# EAGLE library part EPF10K200-RQ240 (library altera)
EPF10K200 FLEX 10K family
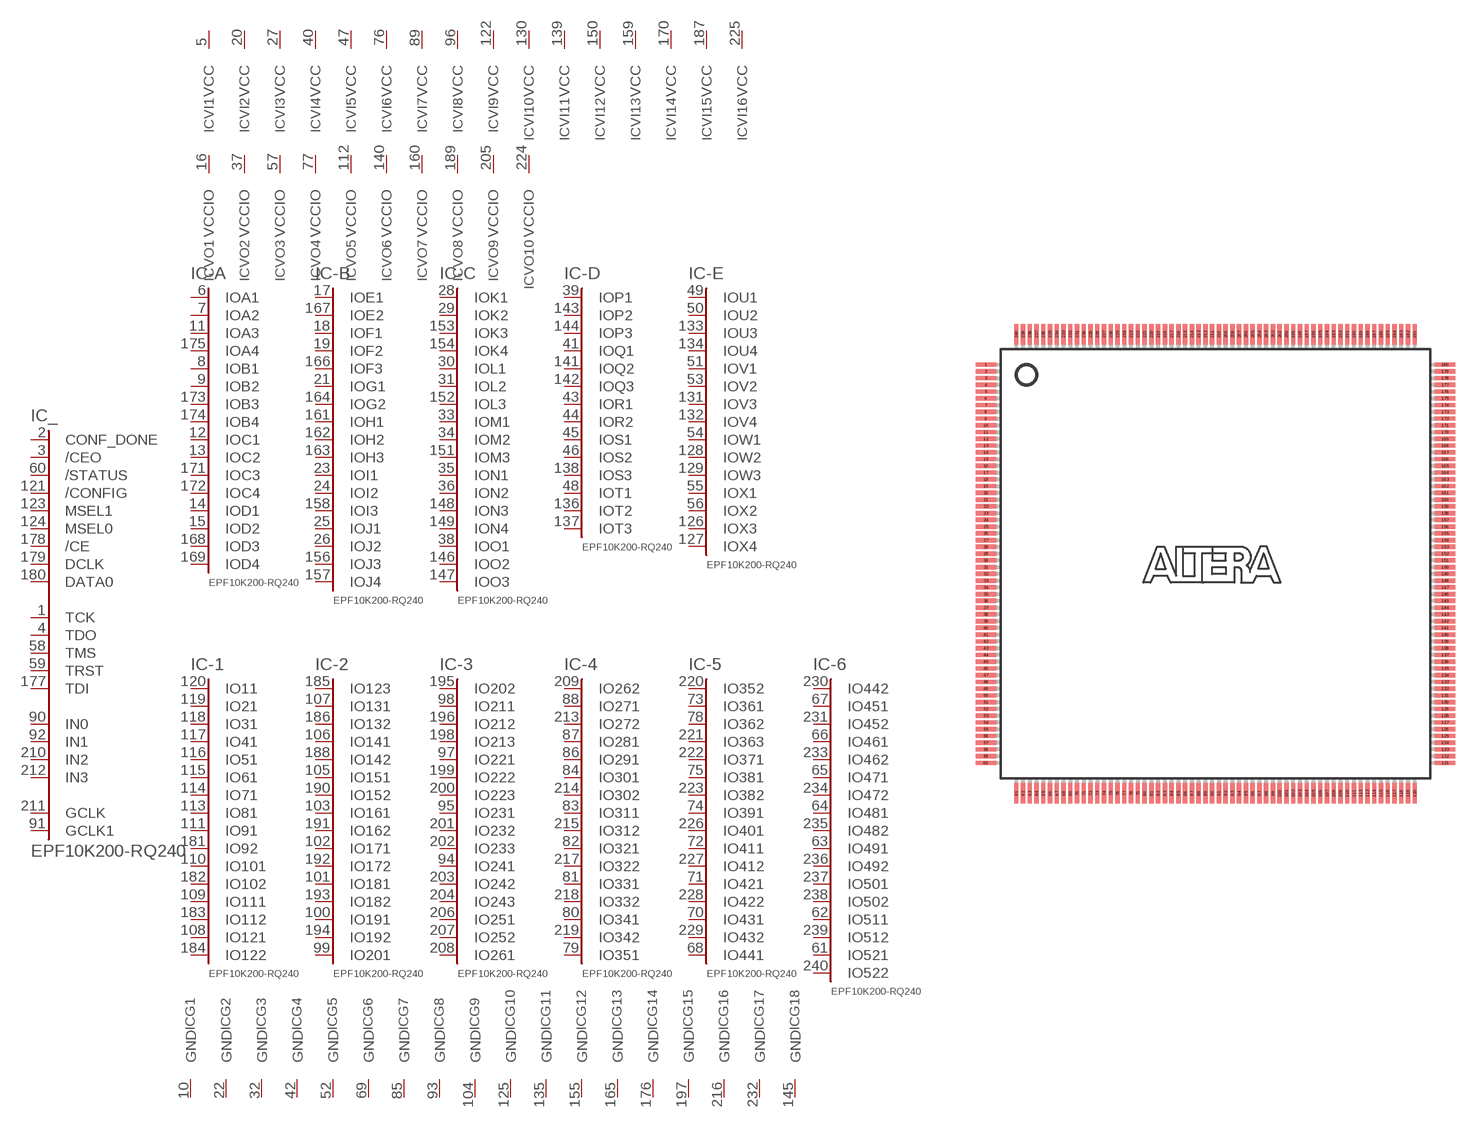
[diagram p35: symbol with the pads of RQFP240; footprint RQFP240]

Designator prefix IC; gates _=R240C -A=A4-D4 -B=E2-J4 -C=K4-O3 -D=P3-T3 -E=U4-X4 -1=122-200 -2=201-200 -3=261-200 -4=351-200 -5=441-200 -6=522-200 G1=GND G2=GND G3=GND G4=GND G5=GND G6=GND G7=GND G8=GND G9=GND G10=GND G11=GND G12=GND G13=GND G14=GND G15=GND G16=GND G17=GND G18=GND VI1=VCCINT VI2=VCCINT VI3=VCCINT VI4=VCCINT VI5=VCCINT VI6=VCCINT VI7=VCCINT VI8=VCCINT VI9=VCCINT VI10=VCCINT VI11=VCCINT VI12=VCCINT VI13=VCCINT VI14=VCCINT VI15=VCCINT VI16=VCCINT VO1=VCCIO VO2=VCCIO VO3=VCCIO VO4=VCCIO VO5=VCCIO VO6=VCCIO VO7=VCCIO VO8=VCCIO VO9=VCCIO VO10=VCCIO

## EPF10K200-RQ240 (MPN: EPF10K200SRC240-3N; OC_FARNELL: unknown; OC_NEWARK: 51R8934)  [RQFP240]
1  _:TCK
2  _:CONF_DONE  in
3  _:/CEO  in
4  _:TDO
5  VI1:VCC  pwr
6  -A:IOA1
7  -A:IOA2
8  -A:IOB1
9  -A:IOB2
10  G1:GND  pwr
11  -A:IOA3
12  -A:IOC1
13  -A:IOC2
14  -A:IOD1
15  -A:IOD2
16  VO1:VCCIO  pwr
17  -B:IOE1
18  -B:IOF1
19  -B:IOF2
20  VI2:VCC  pwr
21  -B:IOG1
22  G2:GND  pwr
23  -B:IOI1
24  -B:IOI2
25  -B:IOJ1
26  -B:IOJ2
27  VI3:VCC  pwr
28  -C:IOK1
29  -C:IOK2
30  -C:IOL1
31  -C:IOL2
32  G3:GND  pwr
33  -C:IOM1
34  -C:IOM2
35  -C:ION1
36  -C:ION2
37  VO2:VCCIO  pwr
38  -C:IOO1
39  -D:IOP1
40  VI4:VCC  pwr
41  -D:IOQ1
42  G4:GND  pwr
43  -D:IOR1
44  -D:IOR2
45  -D:IOS1
46  -D:IOS2
47  VI5:VCC  pwr
48  -D:IOT1
49  -E:IOU1
50  -E:IOU2
51  -E:IOV1
52  G5:GND  pwr
53  -E:IOV2
54  -E:IOW1
55  -E:IOX1
56  -E:IOX2
57  VO3:VCCIO  pwr
58  _:TMS
59  _:TRST
60  _:/STATUS  in
61  -6:IO521
62  -6:IO511
63  -6:IO491
64  -6:IO481
65  -6:IO471
66  -6:IO461
67  -6:IO451
68  -5:IO441
69  G6:GND  pwr
70  -5:IO431
71  -5:IO421
72  -5:IO411
73  -5:IO361
74  -5:IO391
75  -5:IO381
76  VI6:VCC  pwr
77  VO4:VCCIO  pwr
78  -5:IO362
79  -4:IO351
80  -4:IO341
81  -4:IO331
82  -4:IO321
83  -4:IO311
84  -4:IO301
85  G7:GND  pwr
86  -4:IO291
87  -4:IO281
88  -4:IO271
89  VI7:VCC  pwr
90  _:IN0  in
91  _:GCLK1  in
92  _:IN1  in
93  G8:GND  pwr
94  -3:IO241
95  -3:IO231
96  VI8:VCC  pwr
97  -3:IO221
98  -3:IO211
99  -2:IO201
100  -2:IO191
101  -2:IO181
102  -2:IO171
103  -2:IO161
104  G9:GND  pwr
105  -2:IO151
106  -2:IO141
107  -2:IO131
108  -1:IO121
109  -1:IO111
110  -1:IO101
111  -1:IO91
112  VO5:VCCIO  pwr
113  -1:IO81
114  -1:IO71
115  -1:IO61
116  -1:IO51
117  -1:IO41
118  -1:IO31
119  -1:IO21
120  -1:IO11
121  _:/CONFIG  in
122  VI9:VCC  pwr
123  _:MSEL1  in
124  _:MSEL0  in
125  G10:GND  pwr
126  -E:IOX3
127  -E:IOX4
128  -E:IOW2
129  -E:IOW3
130  VI10:VCC  pwr
131  -E:IOV3
132  -E:IOV4
133  -E:IOU3
134  -E:IOU4
135  G11:GND  pwr
136  -D:IOT2
137  -D:IOT3
138  -D:IOS3
139  VI11:VCC  pwr
140  VO6:VCCIO  pwr
141  -D:IOQ2
142  -D:IOQ3
143  -D:IOP2
144  -D:IOP3
145  G18:GND  pwr
146  -C:IOO2
147  -C:IOO3
148  -C:ION3
149  -C:ION4
150  VI12:VCC  pwr
151  -C:IOM3
152  -C:IOL3
153  -C:IOK3
154  -C:IOK4
155  G12:GND  pwr
156  -B:IOJ3
157  -B:IOJ4
158  -B:IOI3
159  VI13:VCC  pwr
160  VO7:VCCIO  pwr
161  -B:IOH1
162  -B:IOH2
163  -B:IOH3
164  -B:IOG2
165  G13:GND  pwr
166  -B:IOF3
167  -B:IOE2
168  -A:IOD3
169  -A:IOD4
170  VI14:VCC  pwr
171  -A:IOC3
172  -A:IOC4
173  -A:IOB3
174  -A:IOB4
175  -A:IOA4
176  G14:GND  pwr
177  _:TDI
178  _:/CE  in
179  _:DCLK  in
180  _:DATA0  in
181  -1:IO92
182  -1:IO102
183  -1:IO112
184  -1:IO122
185  -2:IO123
186  -2:IO132
187  VI15:VCC  pwr
188  -2:IO142
189  VO8:VCCIO  pwr
190  -2:IO152
191  -2:IO162
192  -2:IO172
193  -2:IO182
194  -2:IO192
195  -3:IO202
196  -3:IO212
197  G15:GND  pwr
198  -3:IO213
199  -3:IO222
200  -3:IO223
201  -3:IO232
202  -3:IO233
203  -3:IO242
204  -3:IO243
205  VO9:VCCIO  pwr
206  -3:IO251
207  -3:IO252
208  -3:IO261
209  -4:IO262
210  _:IN2  in
211  _:GCLK  in
212  _:IN3  in
213  -4:IO272
214  -4:IO302
215  -4:IO312
216  G16:GND  pwr
217  -4:IO322
218  -4:IO332
219  -4:IO342
220  -5:IO352
221  -5:IO363
222  -5:IO371
223  -5:IO382
224  VO10:VCCIO  pwr
225  VI16:VCC  pwr
226  -5:IO401
227  -5:IO412
228  -5:IO422
229  -5:IO432
230  -6:IO442
231  -6:IO452
232  G17:GND  pwr
233  -6:IO462
234  -6:IO472
235  -6:IO482
236  -6:IO492
237  -6:IO501
238  -6:IO502
239  -6:IO512
240  -6:IO522

## Footprint RQFP240 (pad centres in mm)
Power Quad Flat Pack
smd 1.5 x 0.32: 1 -17,14.75; 2 -17,14.25; 3 -17,13.75; 4 -17,13.25; 5 -17,12.75; 6 -17,12.25; 7 -17,11.75; 8 -17,11.25; 9 -17,10.75; 10 -17,10.25; 11 -17,9.75; 12 -17,9.25; 13 -17,8.75; 14 -17,8.25; 15 -17,7.75; 16 -17,7.25; 17 -17,6.75; 18 -17,6.25; 19 -17,5.75; 20 -17,5.25; 21 -17,4.75; 22 -17,4.25; 23 -17,3.75; 24 -17,3.25; 25 -17,2.75; 26 -17,2.25; 27 -17,1.75; 28 -17,1.25; 29 -17,0.75; 30 -17,0.25; 31 -17,-0.25; 32 -17,-0.75; 33 -17,-1.25; 34 -17,-1.75; 35 -17,-2.25; 36 -17,-2.75; 37 -17,-3.25; 38 -17,-3.75; 39 -17,-4.25; 40 -17,-4.75; 41 -17,-5.25; 42 -17,-5.75; 43 -17,-6.25; 44 -17,-6.75; 45 -17,-7.25; 46 -17,-7.75; 47 -17,-8.25; 48 -17,-8.75; 49 -17,-9.25; 50 -17,-9.75; 51 -17,-10.25; 52 -17,-10.75; 53 -17,-11.25; 54 -17,-11.75; 55 -17,-12.25; 56 -17,-12.75; 57 -17,-13.25; 58 -17,-13.75; 59 -17,-14.25; 60 -17,-14.75; 121 17,-14.75; 122 17,-14.25; 123 17,-13.75; 124 17,-13.25; 125 17,-12.75; 126 17,-12.25; 127 17,-11.75; 128 17,-11.25; 129 17,-10.75; 130 17,-10.25; 131 17,-9.75; 132 17,-9.25; 133 17,-8.75; 134 17,-8.25; 135 17,-7.75; 136 17,-7.25; 137 17,-6.75; 138 17,-6.25; 139 17,-5.75; 140 17,-5.25; 141 17,-4.75; 142 17,-4.25; 143 17,-3.75; 144 17,-3.25; 145 17,-2.75; 146 17,-2.25; 147 17,-1.75; 148 17,-1.25; 149 17,-0.75; 150 17,-0.25; 151 17,0.25; 152 17,0.75; 153 17,1.25; 154 17,1.75; 155 17,2.25; 156 17,2.75; 157 17,3.25; 158 17,3.75; 159 17,4.25; 160 17,4.75; 161 17,5.25; 162 17,5.75; 163 17,6.25; 164 17,6.75; 165 17,7.25; 166 17,7.75; 167 17,8.25; 168 17,8.75; 169 17,9.25; 170 17,9.75; 171 17,10.25; 172 17,10.75; 173 17,11.25; 174 17,11.75; 175 17,12.25; 176 17,12.75; 177 17,13.25; 178 17,13.75; 179 17,14.25; 180 17,14.75
smd 0.32 x 1.5: 61 -14.75,-17; 62 -14.25,-17; 63 -13.75,-17; 64 -13.25,-17; 65 -12.75,-17; 66 -12.25,-17; 67 -11.75,-17; 68 -11.25,-17; 69 -10.75,-17; 70 -10.25,-17; 71 -9.75,-17; 72 -9.25,-17; 73 -8.75,-17; 74 -8.25,-17; 75 -7.75,-17; 76 -7.25,-17; 77 -6.75,-17; 78 -6.25,-17; 79 -5.75,-17; 80 -5.25,-17; 81 -4.75,-17; 82 -4.25,-17; 83 -3.75,-17; 84 -3.25,-17; 85 -2.75,-17; 86 -2.25,-17; 87 -1.75,-17; 88 -1.25,-17; 89 -0.75,-17; 90 -0.25,-17; 91 0.25,-17; 92 0.75,-17; 93 1.25,-17; 94 1.75,-17; 95 2.25,-17; 96 2.75,-17; 97 3.25,-17; 98 3.75,-17; 99 4.25,-17; 100 4.75,-17; 101 5.25,-17; 102 5.75,-17; 103 6.25,-17; 104 6.75,-17; 105 7.25,-17; 106 7.75,-17; 107 8.25,-17; 108 8.75,-17; 109 9.25,-17; 110 9.75,-17; 111 10.25,-17; 112 10.75,-17; 113 11.25,-17; 114 11.75,-17; 115 12.25,-17; 116 12.75,-17; 117 13.25,-17; 118 13.75,-17; 119 14.25,-17; 120 14.75,-17; 181 14.75,17; 182 14.25,17; 183 13.75,17; 184 13.25,17; 185 12.75,17; 186 12.25,17; 187 11.75,17; 188 11.25,17; 189 10.75,17; 190 10.25,17; 191 9.75,17; 192 9.25,17; 193 8.75,17; 194 8.25,17; 195 7.75,17; 196 7.25,17; 197 6.75,17; 198 6.25,17; 199 5.75,17; 200 5.25,17; 201 4.75,17; 202 4.25,17; 203 3.75,17; 204 3.25,17; 205 2.75,17; 206 2.25,17; 207 1.75,17; 208 1.25,17; 209 0.75,17; 210 0.25,17; 211 -0.25,17; 212 -0.75,17; 213 -1.25,17; 214 -1.75,17; 215 -2.25,17; 216 -2.75,17; 217 -3.25,17; 218 -3.75,17; 219 -4.25,17; 220 -4.75,17; 221 -5.25,17; 222 -5.75,17; 223 -6.25,17; 224 -6.75,17; 225 -7.25,17; 226 -7.75,17; 227 -8.25,17; 228 -8.75,17; 229 -9.25,17; 230 -9.75,17; 231 -10.25,17; 232 -10.75,17; 233 -11.25,17; 234 -11.75,17; 235 -12.25,17; 236 -12.75,17; 237 -13.25,17; 238 -13.75,17; 239 -14.25,17; 240 -14.75,17